# EAGLE library part B-5870 (library ungood)
Burroughs 10-digit Nixie tube with left and right decimal points. B-5870S B-5870ST B-5870SF B-5870TF B-5870L
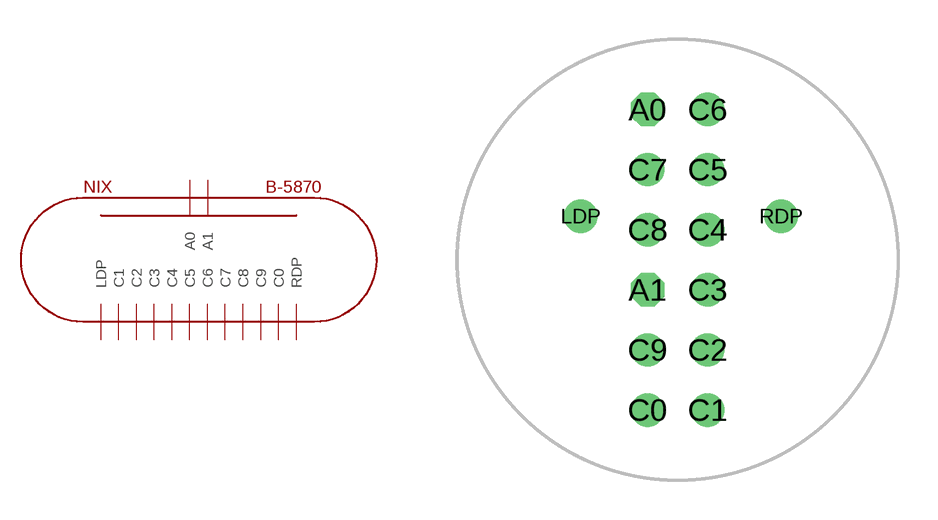
[diagram p0: symbol with the pads of B-5870; footprint B-5870]

Designator prefix NIX

## B-5870  [B-5870]
A0  A0
A1  A1
C0  C0
C1  C1
C2  C2
C3  C3
C4  C4
C5  C5
C6  C6
C7  C7
C8  C8
C9  C9
LDP  LDP
RDP  RDP

## Footprint B-5870 (pad centres in mm)
Burroughs B-5870 series Nixie tubes. B-5870S B-5870ST B-5870SF B-5870TF B-5870L
drill 0.5 pad 1.27 octagon: A0 -1.143,5.715; A1 -1.143,-1.143
drill 0.5 pad 1.27 round: C0 -1.143,-5.715; C1 1.143,-5.715; C2 1.143,-3.429; C3 1.143,-1.143; C4 1.143,1.143; C5 1.143,3.429; C6 1.143,5.715; C7 -1.143,3.429; C8 -1.143,1.143; C9 -1.143,-3.429; LDP -3.683,1.651; RDP 3.937,1.651